# EAGLE library part ALEX-PARTS_TEENSY (library squareinator2)
Teensy 2.0
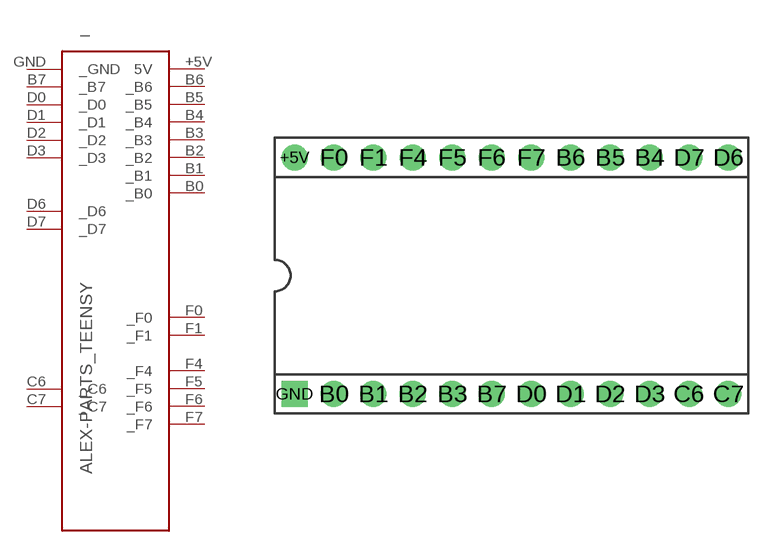
[diagram p3: symbol with the pads of ALEX-PARTS_TEENSY; footprint ALEX-PARTS_TEENSY]

Designator prefix _

## ALEX-PARTS_TEENSY  [ALEX-PARTS_TEENSY]
+5V  5V
B0  _B0
B1  _B1
B2  _B2
B3  _B3
B4  _B4
B5  _B5
B6  _B6
B7  _B7
C6  _C6
C7  _C7
D0  _D0
D1  _D1
D2  _D2
D3  _D3
D6  _D6
D7  _D7
F0  _F0
F1  _F1
F4  _F4
F5  _F5
F6  _F6
F7  _F7
GND  _GND

## ALEX-PARTS_TEENSYTEENSY_LESSPINS  [ALEX-PARTS_TEENSY]
Pads as for ALEX-PARTS_TEENSY

## Footprint ALEX-PARTS_TEENSY (pad centres in mm)
drill 0.813 pad 1.676: +5V -13.97,7.62; B0 -11.43,-7.62; B1 -8.89,-7.62; B2 -6.35,-7.62; B3 -3.81,-7.62; B4 8.89,7.62; B5 6.35,7.62; B6 3.81,7.62; B7 -1.27,-7.62; C6 11.43,-7.62; C7 13.97,-7.62; D0 1.27,-7.62; D1 3.81,-7.62; D2 6.35,-7.62; D3 8.89,-7.62; D6 13.97,7.62; D7 11.43,7.62; F0 -11.43,7.62; F1 -8.89,7.62; F4 -6.35,7.62; F5 -3.81,7.62; F6 -1.27,7.62; F7 1.27,7.62
drill 0.813 pad 1.676 square: GND -13.97,-7.62